# Altium schematic symbol library UMPT-02-01.5-L-V-S-TR.SchLib: 1 symbol
Pins are listed as number, name and electrical type; pins without a type are passive.

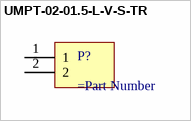
[diagram p0: symbol UMPT-02-01.5-L-V-S-TR]

## UMPT-02-01.5-L-V-S-TR
designator P?
=Description
pins: 1, 2